# EAGLE library part EADOGM128 (library ea-dogm)
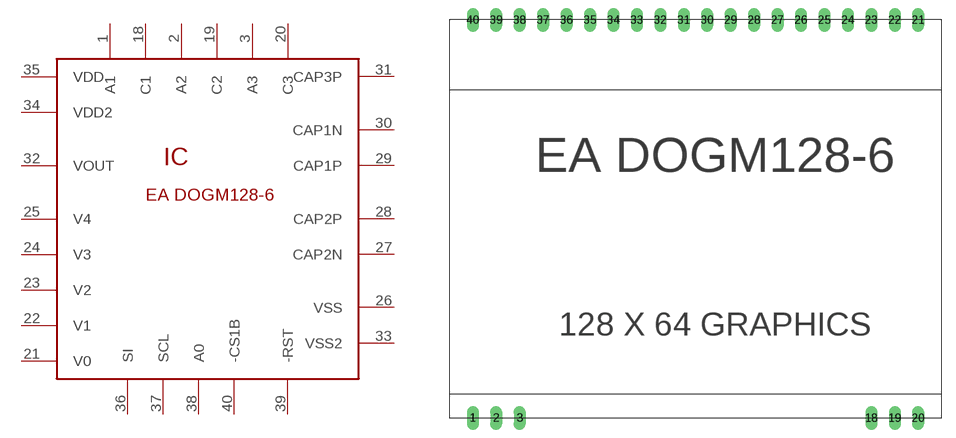
[diagram p0: symbol with the pads of EADOGM128; footprint EADOGM128]

Designator prefix IC

## EADOGM128  [EADOGM128]
1  A1  pas
2  A2  pas
3  A3  pas
18  C1  pas
19  C2  pas
20  C3  pas
21  V0  pas
22  V1  pas
23  V2  pas
24  V3  pas
25  V4  pas
26  VSS  pwr
27  CAP2N  pas
28  CAP2P  pas
29  CAP1P  pas
30  CAP1N  pas
31  CAP3P  pas
32  VOUT  pas
33  VSS2  pwr
34  VDD2  pwr
35  VDD  pwr
36  SI  in
37  SCL  in
38  A0  in
39  -RST  in
40  -CS1B  in

## Footprint EADOGM128 (pad centres in mm)
drill 0.8 long: 1 -25.4,-21.59; 2 -22.86,-21.59; 3 -20.32,-21.59; 18 17.78,-21.59; 19 20.32,-21.59; 20 22.86,-21.59; 21 22.86,21.59; 22 20.32,21.59; 23 17.78,21.59; 24 15.24,21.59; 25 12.7,21.59; 26 10.16,21.59; 27 7.62,21.59; 28 5.08,21.59; 29 2.54,21.59; 30 0,21.59; 31 -2.54,21.59; 32 -5.08,21.59; 33 -7.62,21.59; 34 -10.16,21.59; 35 -12.7,21.59; 36 -15.24,21.59; 37 -17.78,21.59; 38 -20.32,21.59; 39 -22.86,21.59; 40 -25.4,21.59